# Altium footprint library IC_Texas_Instruments_SN74HC125PWR_eec_IPC_C.PcbLib: 1 footprints
Each footprint in its own frame and in the unit in brackets; x right, y up, seen from the top. Pads: shape width x height; smd on the part's side, far side on the other; paste and mask are expansions set on the pad; w line width, h text height; cw(c..) or ccw(c..) is an arc to the next point about the centre after c.
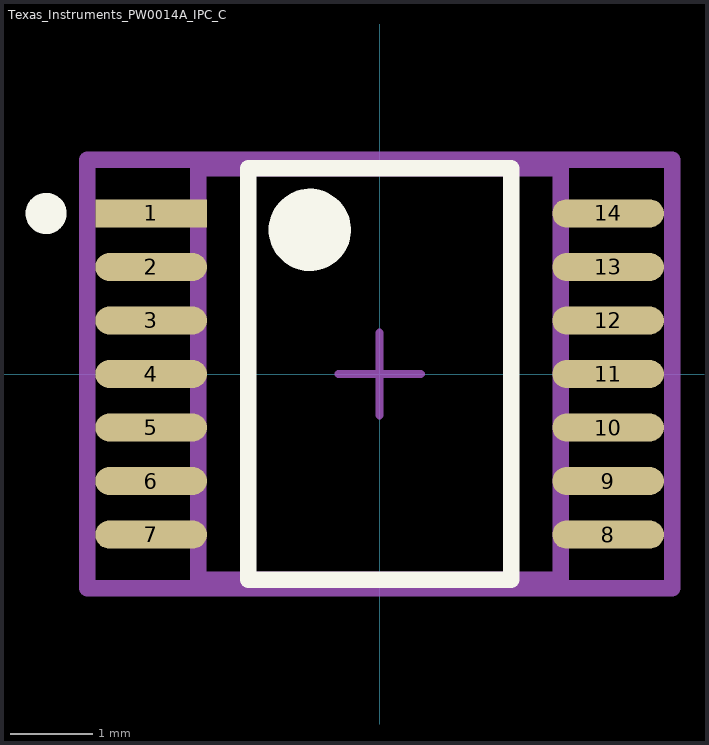
[diagram p0: the footprint, top view; thin cyan lines are the x and y axes]

## Texas_Instruments_PW0014A_IPC_C [mm]
pads (14):
  rect 1.355x0.341 smd paste+0 mask+0: 1(-2.775,1.95)
  rrect100% 1.355x0.341 smd paste+0 mask+0: 2(-2.775,1.3) 3(-2.775,0.65) 4(-2.775,0) 5(-2.775,-0.65) 6(-2.775,-1.3) 7(-2.775,-1.95) 8(2.775,-1.95) 9(2.775,-1.3) 10(2.775,-0.65) 11(2.775,0) 12(2.775,0.65) 13(2.775,1.3) 14(2.775,1.95)
Top Overlay:
  circle w0.5: c-0.848,1.75 r0.25
  circle w0.25: c-4.05,1.95 r0.125
  lines w0.2: -1.598,-2.5 1.598,-2.5 1.598,2.5 -1.598,2.5 -1.598,-2.5
Mechanical 10:
  lines w0.2: -3.553,-2.6 3.553,-2.6 3.553,2.6 -3.553,2.6 -3.553,-2.6
  text ".Designator" at 0,0.188 h1
Mechanical 12:
  lines w0.2: -2.2,-2.5 2.2,-2.5 2.2,2.5 -2.2,2.5 -2.2,-2.5
Mechanical 15:
  lines w0.1: -0.5,0 0.5,0 ; 0,-0.5 0,0.5
  lines w0.2: -3.553,-2.6 3.553,-2.6 3.553,2.6 -3.553,2.6 -3.553,-2.6
3D body "IC_Texas_Instruments_SN74HC125PWR_eec.STEP": height 0.25, standoff 0, extent -3.553,-2.6 3.553,2.6